# EAGLE library part JMP/8P/SIP (library audioint)
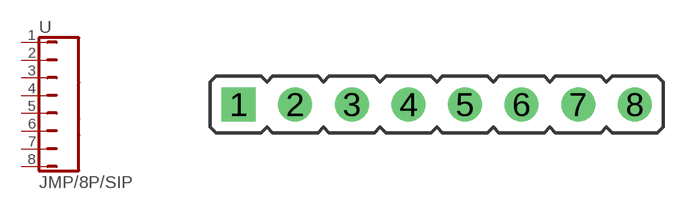
[diagram p19: symbol with the pads of JMP/8P/SIP; footprint JMP/8P/SIP]

Designator prefix -

## JMP/8P/SIP  [JMP/8P/SIP]
1  1  pas
2  2  pas
3  3  pas
4  4  pas
5  5  pas
6  6  pas
7  7  pas
8  8  pas

## Footprint JMP/8P/SIP (pad centres in mm)
drill 0.914 pad 1.524 square: 1 -8.89,0
drill 0.914 pad 1.524 round: 2 -6.35,0; 3 -3.81,0; 4 -1.27,0; 5 1.27,0; 6 3.81,0; 7 6.35,0; 8 8.89,0